# EAGLE library part M12 (library Spark)
Header 12 Standard 12-pin 0.1" header. Use with straight break away headers (SKU : PRT-00116), right angle break away headers (PRT-00553), swiss pins (PRT-00743), machine pins (PRT-00117), and female headers (PRT-00115).
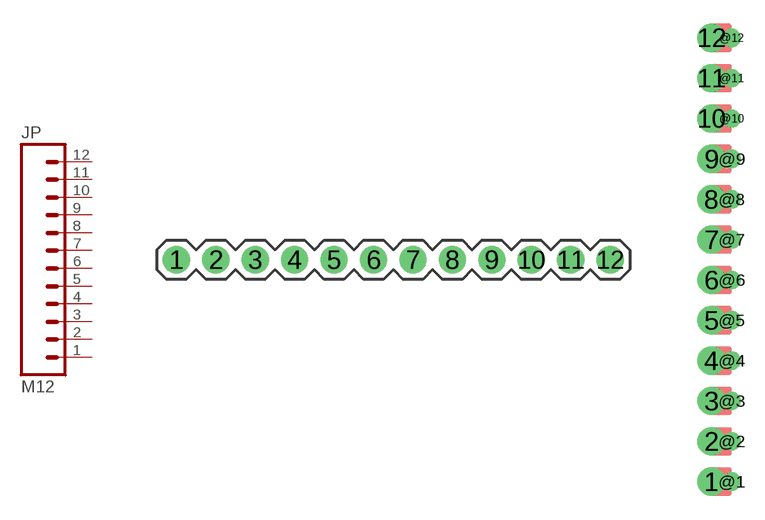
[diagram p0: symbol with the pads of 1X12-SMALL-PADS; footprints 1X12-SMALL-PADS, 1X12-CASTELLATED]

Designator prefix JP

## M12PTH  [1X12-SMALL-PADS]
1  1  pas
2  2  pas
3  3  pas
4  4  pas
5  5  pas
6  6  pas
7  7  pas
8  8  pas
9  9  pas
10  10  pas
11  11  pas
12  12  pas

## M12PTH-CST-L  [1X12-CASTELLATED]
1  12  pas
2  11  pas
3  10  pas
4  9  pas
5  8  pas
6  7  pas
7  6  pas
8  5  pas
9  4  pas
10  3  pas
11  2  pas
12  1  pas

## M12PTH-CST-R  [1X12-CASTELLATED]
Pads as for 1X12-SMALL-PADS

## Footprint 1X12-SMALL-PADS (pad centres in mm)
drill 0.889 pad 1.753: 1 0,0; 2 2.54,0; 3 5.08,0; 4 7.62,0; 5 10.16,0; 6 12.7,0; 7 15.24,0; 8 17.78,0; 9 20.32,0; 10 22.86,0; 11 25.4,0; 12 27.94,0

## Footprint 1X12-CASTELLATED (pad centres in mm)
drill 1.016 pad 1.778: 1 0,-13.97; 2 0,-11.43; 3 0,-8.89; 4 0,-6.35; 5 0,-3.81; 6 0,-1.27; 7 0,1.27; 8 0,3.81; 9 0,6.35; 10 0,8.89; 11 0,11.43; 12 0,13.97
drill 0.635 pad 1.016: @1 1.27,-13.97; @2 1.27,-11.43; @3 1.27,-8.89; @4 1.27,-6.35; @5 1.27,-3.81; @6 1.27,-1.27; @7 1.27,1.27; @8 1.27,3.81; @9 1.27,6.35; @10 1.27,8.89; @11 1.27,11.43; @12 1.27,13.97